# Altium schematic symbol library NC7SZ57.Schlib: 1 symbol
Pins are listed as number, name and electrical type; pins without a type are passive.

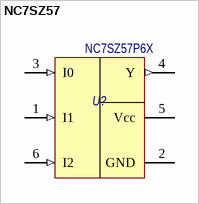
[diagram p0: symbol NC7SZ57]

## NC7SZ57
designator U?, comment NC7SZ57P6X
Universal Configurable 2-Input / Logic Gates; Потребление, Вт: 0,001; Назначение: Universal Configurable 2-Input; Наименование: NC7SZ57P6X
footprint SC70 6-Lead (6-Lead SC70, EIAJ SC88, 1.25mm Wide)
pins: 1 I1 (in), 2 GND (power), 3 I0 (in), 4 Y (out), 5 Vcc (power), 6 I2 (in)